# EAGLE library part MDR_R_50G (library Con-MDR-Centronics)
CONNECTOR 50 pin MDR mini centronics with ground 10250-6212PC 10250-55H3PC
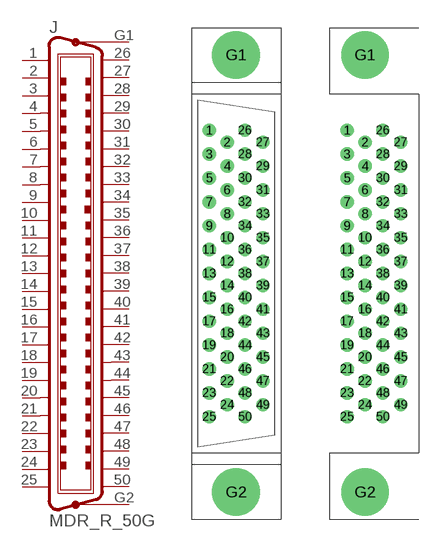
[diagram p0: symbol with the pads of MDR_R_50GV; footprints MDR_R_50GV, MDR_R_50GH]

Designator prefix J

## MDR_R_50GV  [MDR_R_50GV]
1  1  pas
2  2  pas
3  3  pas
4  4  pas
5  5  pas
6  6  pas
7  7  pas
8  8  pas
9  9  pas
10  10  pas
11  11  pas
12  12  pas
13  13  pas
14  14  pas
15  15  pas
16  16  pas
17  17  pas
18  18  pas
19  19  pas
20  20  pas
21  21  pas
22  22  pas
23  23  pas
24  24  pas
25  25  pas
26  26  pas
27  27  pas
28  28  pas
29  29  pas
30  30  pas
31  31  pas
32  32  pas
33  33  pas
34  34  pas
35  35  pas
36  36  pas
37  37  pas
38  38  pas
39  39  pas
40  40  pas
41  41  pas
42  42  pas
43  43  pas
44  44  pas
45  45  pas
46  46  pas
47  47  pas
48  48  pas
49  49  pas
50  50  pas
G1  G  pas
G2  G1  pas

## MDR_R_50GH  [MDR_R_50GH]
Pads as for MDR_R_50GV

## Footprint MDR_R_50GV (pad centres in mm)
drill 0.8 pad 1.422 round: 1 -3.81,15.24; 2 -1.905,13.97; 3 -3.81,12.7; 4 -1.905,11.43; 5 -3.81,10.16; 6 -1.905,8.89; 7 -3.81,7.62; 8 -1.905,6.35; 9 -3.81,5.08; 10 -1.905,3.81; 11 -3.81,2.54; 12 -1.905,1.27; 13 -3.81,0; 14 -1.905,-1.27; 15 -3.81,-2.54; 16 -1.905,-3.81; 17 -3.81,-5.08; 18 -1.905,-6.35; 19 -3.81,-7.62; 20 -1.905,-8.89; 21 -3.81,-10.16; 22 -1.905,-11.43; 23 -3.81,-12.7; 24 -1.905,-13.97; 25 -3.81,-15.24; 26 0,15.24; 27 1.905,13.97; 28 0,12.7; 29 1.905,11.43; 30 0,10.16; 31 1.905,8.89; 32 0,7.62; 33 1.905,6.35; 34 0,5.08; 35 1.905,3.81; 36 0,2.54; 37 1.905,1.27; 38 0,0; 39 1.905,-1.27; 40 0,-2.54; 41 1.905,-3.81; 42 0,-5.08; 43 1.905,-6.35; 44 0,-7.62; 45 1.905,-8.89; 46 0,-10.16; 47 1.905,-11.43; 48 0,-12.7; 49 1.905,-13.97; 50 0,-15.24
drill 2.794 pad 5.08 round: G1 -0.953,23.254; G2 -0.953,-23.254

## Footprint MDR_R_50GH (pad centres in mm)
drill 0.8 pad 1.422 round: 1 -3.81,15.24; 2 -1.905,13.97; 3 -3.81,12.7; 4 -1.905,11.43; 5 -3.81,10.16; 6 -1.905,8.89; 7 -3.81,7.62; 8 -1.905,6.35; 9 -3.81,5.08; 10 -1.905,3.81; 11 -3.81,2.54; 12 -1.905,1.27; 13 -3.81,0; 14 -1.905,-1.27; 15 -3.81,-2.54; 16 -1.905,-3.81; 17 -3.81,-5.08; 18 -1.905,-6.35; 19 -3.81,-7.62; 20 -1.905,-8.89; 21 -3.81,-10.16; 22 -1.905,-11.43; 23 -3.81,-12.7; 24 -1.905,-13.97; 25 -3.81,-15.24; 26 0,15.24; 27 1.905,13.97; 28 0,12.7; 29 1.905,11.43; 30 0,10.16; 31 1.905,8.89; 32 0,7.62; 33 1.905,6.35; 34 0,5.08; 35 1.905,3.81; 36 0,2.54; 37 1.905,1.27; 38 0,0; 39 1.905,-1.27; 40 0,-2.54; 41 1.905,-3.81; 42 0,-5.08; 43 1.905,-6.35; 44 0,-7.62; 45 1.905,-8.89; 46 0,-10.16; 47 1.905,-11.43; 48 0,-12.7; 49 1.905,-13.97; 50 0,-15.24
drill 2.794 pad 5.08 round: G1 -1.905,23.254; G2 -1.905,-23.254